# Altium footprint library W25Q128FVSIG.PcbLib: 3 footprints
Each footprint in its own frame and in the unit in brackets; x right, y up, seen from the top. Pads: shape width x height; smd on the part's side, far side on the other; paste and mask are expansions set on the pad; w line width, h text height; cw(c..) or ccw(c..) is an arc to the next point about the centre after c.
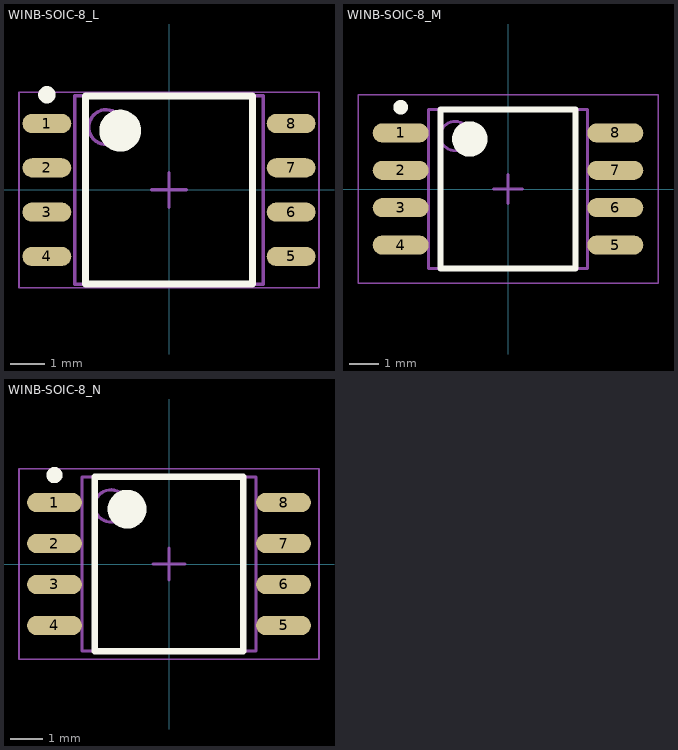
[diagram p0: the footprints below, top view; thin cyan lines are the x and y axes]

## WINB-SOIC-8_L [mm] "SOIC, 8-Leads, Body 5.4x5.4mm, Pitch 1.27mm, IPC High Density"
height 2.16
pads (8):
  oval 1.4x0.55 smd: 1(-3.5,1.905) 2(-3.5,0.635) 3(-3.5,-0.635) 4(-3.5,-1.905) 5(3.5,-1.905) 6(3.5,-0.635) 7(3.5,0.635) 8(3.5,1.905)
Top Overlay:
  circle w0.25: c-3.5,2.73 r0.125
  circle w0.6: c-1.4,1.7 r0.3
  lines w0.2: -2.4,-2.7 -2.4,2.7 2.4,2.7 2.4,-2.7 -2.4,-2.7
Mechanical 13:
  circle w0.1: c-1.8,1.8 r0.5
  lines w0.1: -2.7,-2.7 -2.7,2.7 2.7,2.7 2.7,-2.7 -2.7,-2.7
Mechanical 15:
  lines w0.05: -4.3,-2.8 -4.3,2.8 4.3,2.8 4.3,-2.8 -4.3,-2.8
  lines w0.1: -0.5,0 0.5,0 ; 0,-0.5 0,0.5
3D body: height 2.16, standoff 0.05, extent -2.7,-2.7 2.7,2.7

## WINB-SOIC-8_M [mm] "SOIC, 8-Leads, Body 5.4x5.4mm, Pitch 1.27mm, IPC Low Density"
height 2.16
pads (8):
  oval 1.9x0.65 smd: 1(-3.65,1.905) 2(-3.65,0.635) 3(-3.65,-0.635) 4(-3.65,-1.905) 5(3.65,-1.905) 6(3.65,-0.635) 7(3.65,0.635) 8(3.65,1.905)
Top Overlay:
  circle w0.25: c-3.65,2.78 r0.125
  circle w0.6: c-1.3,1.7 r0.3
  lines w0.2: -2.3,-2.7 -2.3,2.7 2.3,2.7 2.3,-2.7 -2.3,-2.7
Mechanical 13:
  circle w0.1: c-1.8,1.8 r0.5
  lines w0.1: -2.7,-2.7 -2.7,2.7 2.7,2.7 2.7,-2.7 -2.7,-2.7
Mechanical 15:
  lines w0.05: -5.1,-3.2 -5.1,3.2 5.1,3.2 5.1,-3.2 -5.1,-3.2
  lines w0.1: -0.5,0 0.5,0 ; 0,-0.5 0,0.5
3D body: height 2.16, standoff 0.05, extent -2.7,-2.7 2.7,2.7

## WINB-SOIC-8_N [mm] "SOIC, 8-Leads, Body 5.4x5.4mm, Pitch 1.27mm, IPC Medium Density"
height 2.16
pads (8):
  oval 1.7x0.6 smd: 1(-3.55,1.905) 2(-3.55,0.635) 3(-3.55,-0.635) 4(-3.55,-1.905) 5(3.55,-1.905) 6(3.55,-0.635) 7(3.55,0.635) 8(3.55,1.905)
Top Overlay:
  circle w0.25: c-3.55,2.755 r0.125
  circle w0.6: c-1.3,1.7 r0.3
  lines w0.2: -2.3,-2.7 -2.3,2.7 2.3,2.7 2.3,-2.7 -2.3,-2.7
Mechanical 13:
  circle w0.1: c-1.8,1.8 r0.5
  lines w0.1: -2.7,-2.7 -2.7,2.7 2.7,2.7 2.7,-2.7 -2.7,-2.7
Mechanical 15:
  lines w0.05: -4.65,-2.95 -4.65,2.95 4.65,2.95 4.65,-2.95 -4.65,-2.95
  lines w0.1: -0.5,0 0.5,0 ; 0,-0.5 0,0.5
3D body: height 2.16, standoff 0.05, extent -2.7,-2.7 2.7,2.7